# Altium footprint library RE_1210_H7.PcbLib: 1 footprints
Each footprint in its own frame and in the unit in brackets; x right, y up, seen from the top. Pads: shape width x height; smd on the part's side, far side on the other; paste and mask are expansions set on the pad; w line width, h text height; cw(c..) or ccw(c..) is an arc to the next point about the centre after c.
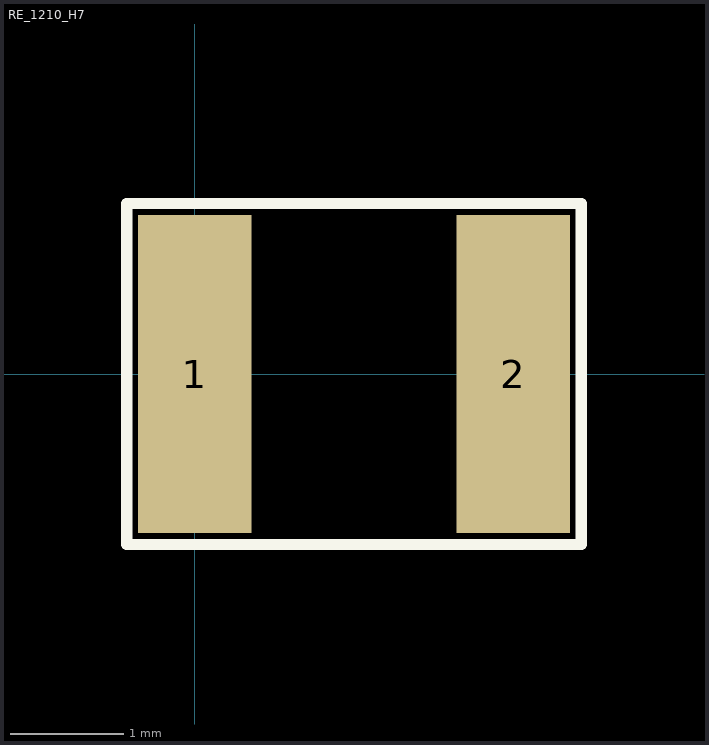
[diagram p0: the footprint, top view; thin cyan lines are the x and y axes]

## RE_1210_H7 [mm]
height 0.7
pads (2):
  rect 1x2.8 smd: 1(0,0) 2(2.8,0)
Top Overlay:
  lines w0.1: -0.6,-1.5 -0.6,1.5 3.4,1.5 3.4,-1.5 -0.6,-1.5
3D body: height 0.55, standoff 0, extent -0.2,-1.25 3,1.25